# EAGLE library part DRV8412 (library Railstars)
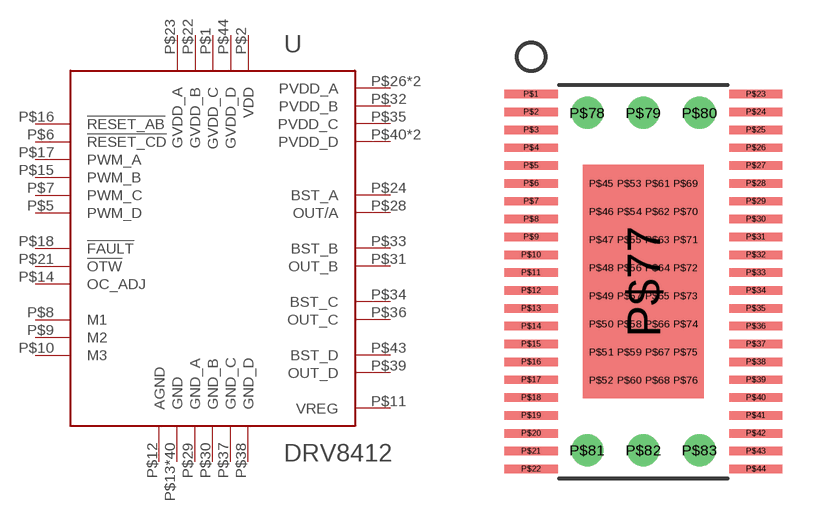
[diagram p22: symbol with the pads of POWERPAD-TSSOP-44; footprint POWERPAD-TSSOP-44]

Designator prefix -

## DRV8412  [POWERPAD-TSSOP-44]
P$1  GVDD_C
P$2  VDD
P$5  PWM_D
P$6  !RESET_CD
P$7  PWM_C
P$8  M1
P$9  M2
P$10  M3
P$11  VREG
P$12  AGND
P$13  GND
P$14  OC_ADJ
P$15  PWM_B
P$16  !RESET_AB
P$17  PWM_A
P$18  !FAULT
P$21  !OTW
P$22  GVDD_B
P$23  GVDD_A
P$24  BST_A
P$26  PVDD_A
P$27  PVDD_A
P$28  OUT/A
P$29  GND_A
P$30  GND_B
P$31  OUT_B
P$32  PVDD_B
P$33  BST_B
P$34  BST_C
P$35  PVDD_C
P$36  OUT_C
P$37  GND_C
P$38  GND_D
P$39  OUT_D
P$40  PVDD_D
P$41  PVDD_D
P$43  BST_D
P$44  GVDD_D
P$45  GND
P$46  GND
P$47  GND
P$48  GND
P$49  GND
P$50  GND
P$51  GND
P$52  GND
P$53  GND
P$54  GND
P$55  GND
P$56  GND
P$57  GND
P$58  GND
P$59  GND
P$60  GND
P$61  GND
P$62  GND
P$63  GND
P$64  GND
P$65  GND
P$66  GND
P$67  GND
P$68  GND
P$69  GND
P$70  GND
P$71  GND
P$72  GND
P$73  GND
P$74  GND
P$75  GND
P$76  GND
P$77  GND
P$78  GND
P$79  GND
P$80  GND
P$81  GND
P$82  GND
P$83  GND

## Footprint POWERPAD-TSSOP-44 (pad centres in mm)
smd 1.9 x 0.3: P$1 -4,6.668; P$2 -4,6.032; P$3 -4,5.397; P$4 -4,4.763; P$5 -4,4.128; P$6 -4,3.493; P$7 -4,2.857; P$8 -4,2.223; P$9 -4,1.587; P$10 -4,0.953; P$11 -4,0.318; P$12 -4,-0.318; P$13 -4,-0.953; P$14 -4,-1.587; P$15 -4,-2.223; P$16 -4,-2.857; P$17 -4,-3.493; P$18 -4,-4.128; P$19 -4,-4.763; P$20 -4,-5.397; P$21 -4,-6.032; P$22 -4,-6.668; P$23 4,6.668; P$24 4,6.032; P$25 4,5.397; P$26 4,4.763; P$27 4,4.128; P$28 4,3.493; P$29 4,2.857; P$30 4,2.223; P$31 4,1.587; P$32 4,0.953; P$33 4,0.318; P$34 4,-0.318; P$35 4,-0.953; P$36 4,-1.587; P$37 4,-2.223; P$38 4,-2.857; P$39 4,-3.493; P$40 4,-4.128; P$41 4,-4.763; P$42 4,-5.397; P$43 4,-6.032; P$44 4,-6.668
drill 0.3 pad 0.406: P$45 -1.5,3.5; P$46 -1.5,2.5; P$47 -1.5,1.5; P$48 -1.5,0.5; P$49 -1.5,-0.5; P$50 -1.5,-1.5; P$51 -1.5,-2.5; P$52 -1.5,-3.5; P$53 -0.5,3.5; P$54 -0.5,2.5; P$55 -0.5,1.5; P$56 -0.5,0.5; P$57 -0.5,-0.5; P$58 -0.5,-1.5; P$59 -0.5,-2.5; P$60 -0.5,-3.5; P$61 0.5,3.5; P$62 0.5,2.5; P$63 0.5,1.5; P$64 0.5,0.5; P$65 0.5,-0.5; P$66 0.5,-1.5; P$67 0.5,-2.5; P$68 0.5,-3.5; P$69 1.5,3.5; P$70 1.5,2.5; P$71 1.5,1.5; P$72 1.5,0.5; P$73 1.5,-0.5; P$74 1.5,-1.5; P$75 1.5,-2.5; P$76 1.5,-3.5
smd 4.3 x 8.3: P$77 0,0
drill 0.635 pad 0.813: P$78 -2,6; P$79 0,6; P$80 2,6; P$81 -2,-6; P$82 0,-6; P$83 2,-6